# Altium schematic symbol library SEMATIK_LIB.SchLib: 632 symbols (part 11 of 21)
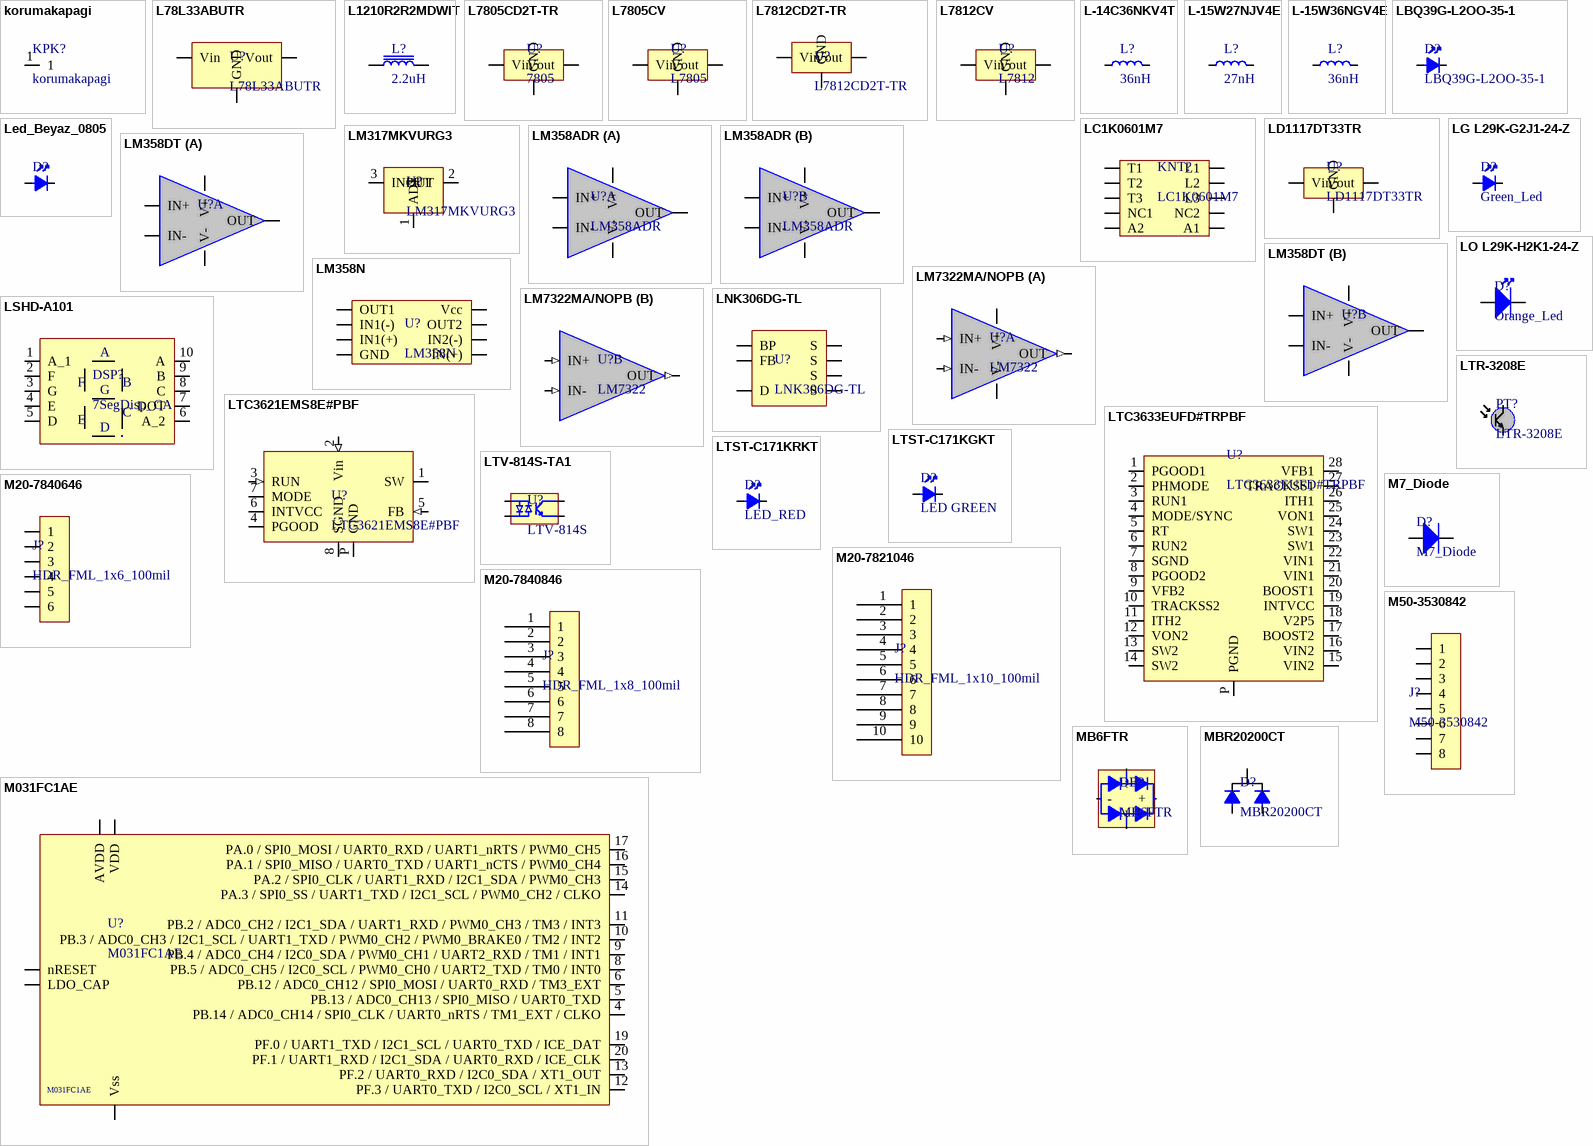
[diagram p26: symbols korumakapagi to MBR20200CT]

## L-15W27NJV4E
designator L?, comment 27nH
FIXED IND nH 27 600MA 120MOHM SMD; Manufacturer: Johanson; Manufacturer Part Number: L-15W27NJV4E; Core Material: Ceramic; Tolerance: 5%; Shielding: Unshielded; DC Resistance (DCR): 120mR; Self Resonant Frequency: 2.6GHz; Test Frequency: 100MHz; Q Factor: 60; Supplier 1: Digi-Key; RoHS: Yes; Category: Fixed Inductors; Pricing 1: 4000=0,08127 (USD); Mount: Surface Mount; Case/Package: 0805; Case Code (Metric): 2012; Case Code (Imperial): 0805; Min Operating Temperature: -40°C; Max Operating Temperature: 125°C; Package Quantity: 2000; Current Rating: 600mA; Packaging: Tape and Reel; Resistor Type: Wirewound; Inductance: 27nH; Max DC Current: 600mA; Termination: SMD/SMT; DC Current: 600mA; Series: -; Length: 0.079inch; Width: 0.049inch; Height: 1.2mm; Height - Seated (Max): 0.055inch; Depth: 1.45mm; Military Standard: Not; RoHS Compliant: Yes; ComponentLink1URL: http://www.mouser.com/ds/2/611/jti-cat-ww-ind-541413.pdf?src-supplier=Mouser; ComponentLink1Description: http://www.mouser.com/ds/2/611/jti-cat-ww-ind-541413.pdf?src-supplier=Mouser; ComponentLink2URL: http://components.arrow.com/part/dataview/0323_01333189?src-supplier=Arrow+Europe; ComponentLink2Description: http://components.arrow.com/part/dataview/0323_01333189?src-supplier=Arrow+Europe; ComponentLink3URL: http://components.arrow.com/part/dataview/43911987S9161101N2069?src-supplier=Arrow+Electronics; ComponentLink3Description: http://components.arrow.com/part/dataview/43911987S9161101N2069?src-supplier=Arrow+Electronics; ComponentLink4URL: https://www.johansontechnology.com/downloads/jti-cat-ww-ind.pdf?src-supplier=Digi-Key; ComponentLink4Description: https://www.johansontechnology.com/downloads/jti-cat-ww-ind.pdf?src-supplier=Digi-Key; Supplier Part Number 1: L-15W27NJV4E-ND
footprint FERRITEBEAD_0805
pins: 1, 2

## L-15W36NGV4E
designator L?, comment 36nH
FIXED IND nH 36 500MA SMD; Manufacturer: Johanson; Manufacturer Part Number: L-15W36NGV4E; Core Material: Ceramic; Tolerance: 2%; Shielding: Unshielded; Test Frequency: 100MHz; Supplier 1: Digi-Key; RoHS: Yes; Category: Fixed Inductors; Mount: Surface Mount; Case/Package: 0805; Min Operating Temperature: -40°C; Max Operating Temperature: 125°C; Package Quantity: 2000; Current Rating: 500mA; Packaging: Tape and Reel; Resistor Type: Wirewound; Inductance: 36nH; Length: 0.079inch; Width: 0.049inch; Height - Seated (Max): 0.055inch; ComponentLink1URL: https://www.johansontechnology.com/downloads/jti-cat-ww-ind.pdf?src-supplier=Digi-Key; ComponentLink1Description: https://www.johansontechnology.com/downloads/jti-cat-ww-ind.pdf?src-supplier=Digi-Key; Supplier Part Number 1: L-15W36NGV4E-ND
footprint FERRITEBEAD_0805
pins: 1, 2

## LBQ39G-L2OO-35-1
designator D?
LED BLUE DIFFUSED 0603 SMD; Manufacturer 1: Osram Opto; Description 1: CHIPLED 0603 BLUE; Lens Style: Diffused,Colorless,Rectangular; Dominant Wavelength: 470nm; Luminous Flux: 0.089lm; Number of LEDs: 1; Supplier 1: Digi-Key; Manufacturer Part Number 1: LBQ39G-L2OO-35-1; Stock 1: 98542; Pricing 1: 1=0.43, 10=0.304, 100=0.1776, 500=0.12178, 1000=0.10148 (USD); Mount: Surface Mount; Case/Package: SMD/SMT; Number of Pins: 2; Color: Blue; Packaging: Tape and Reel; Radiation Hardening: No; Supplier Part Number 1: 475-2816-1-ND
footprint LED_0603_BLUE
pins: 1 Katot, 2 Anot

## LC1K0601M7
designator KNT?
SCHNEIDER ELECTRIC CONTACTOR; Number of Poles: 3; Contact Current Rating: 6A; Throw Configuration: 3P; Coil Voltage (AC): 230V; Supplier 1: RSComponents; Manufacturer 1: Schneider Electric; Manufacturer Part Number 1: LC1K0601M7; Stock 1: 0; Min Operating Temperature: -25°C; Max Operating Temperature: 50°C; Termination: Screw; Length: 58mm; Width: 45mm; Depth: 57mm; REACH SVHC: No SVHC; ComponentLink1URL: http://www.farnell.com/datasheets/1675126.pdf?src-supplier=Element14; ComponentLink1Description: http://www.farnell.com/datasheets/1675126.pdf?src-supplier=Element14; Supplier Part Number 1: 744-7617
footprint LC1K0601_1
pins: 1 T1, 2 T2, 3 T3, 4 NC1, 5 A2, 6 A1, 7 NC2, 8 L3, 9 L2, 10 L1

## LD1117DT33TR
designator U?
IC REG LINEAR 3.3V 800MA DPAK; Manufacturer: STMicroelectronics; Max Power Dissipation: 12W; Dropout Voltage: 1.1V; Max Input Voltage: 15V; Nominal Supply Current: 5mA; Max Output Current: 1.3A; Number of Outputs: 1; Quiescent Current: 10mA; Polarity: Positive; Accuracy: 1%; Output Type: Fixed; Supplier 1: Digi-Key; Manufacturer Part Number: LD1117DT33TR; Stock 1: 15000; Pricing 1: 2500 = 0,15312, 5000 = 0,14256, 12500 = 0,13517, 25000 = 0,13200, 62500 = 0,12989, 125000 = 0,12672 (USD); RoHS: Yes; Mount: Surface Mount; Case/Package: TO-252; Number of Pins: 3; Weight: 0.01lb; Contact Plating: Tin,Matte; Min Operating Temperature: 0°C; Max Operating Temperature: 125°C; Packaging: Tape and Reel; Package Quantity: 1; Power Dissipation: 12W; Output Current: 800mA; Output Voltage: 3.3V; Nominal Output Voltage: 3.3V; Number of Regulators: 1; Input Bias Current: 5mA; Output Voltage Accuracy: 1%; Power Rating: 12W; Tolerance: 1%; Length: 6.6mm; Height: 2.4mm; Width: 6.2mm; Radiation Hardening: No; REACH SVHC: No SVHC; Lead Free: Lead Free; ComponentLink1URL: https://datasheet.ciiva.com/14149/ld1117-eng-tds-14149938.pdf?src-supplier=Distrelec; ComponentLink1Description: https://datasheet.ciiva.com/14149/ld1117-eng-tds-14149938.pdf?src-supplier=Distrelec; ComponentLink2URL: https://datasheet.ciiva.com/39121/1991846-39121638.pdf?src-supplier=Jameco; ComponentLink2Description: https://datasheet.ciiva.com/39121/1991846-39121638.pdf?src-supplier=Jameco; ComponentLink3URL: https://datasheet.ciiva.com/2042/cd00000544-2042056.pdf?src-supplier=Digi-Key; ComponentLink3Description: https://datasheet.ciiva.com/2042/cd00000544-2042056.pdf?src-supplier=Digi-Key; ComponentLink4URL: https://datasheet.ciiva.com/2042/cd00000544-2042057.pdf?src-supplier=Digi-Key; ComponentLink4Description: https://datasheet.ciiva.com/2042/cd00000544-2042057.pdf?src-supplier=Digi-Key; ComponentLink5URL: https://datasheet.ciiva.com/7992/1776449-7992617.pdf?src-supplier=Element14; ComponentLink5Description: https://datasheet.ciiva.com/7992/1776449-7992617.pdf?src-supplier=Element14; ComponentLink6URL: https://datasheet.ciiva.com/2042/cd00000544-2042058.pdf?src-supplier=Digi-Key; ComponentLink6Description: https://datasheet.ciiva.com/2042/cd00000544-2042058.pdf?src-supplier=Digi-Key; ComponentLink7URL: https://datasheet.ciiva.com/16199/cd00000544-16199549.pdf?src-supplier=Future+Electronics; ComponentLink7Description: https://datasheet.ciiva.com/16199/cd00000544-16199549.pdf?src-supplier=Future+Electronics; ComponentLink8URL: https://datasheet.ciiva.com/7993/1776449-7993326.pdf?src-supplier=Element14; ComponentLink8Description: https://datasheet.ciiva.com/7993/1776449-7993326.pdf?src-supplier=Element14; Supplier Part Number 1: 497-1236-2-ND
footprint DPAK
pins: 1 GND, 2 Vout, 3 Vin

## Led_Beyaz_0805
designator D?, comment QBLP631-IW  (value not drawn)
LED WHITE 0805 SMD; Manufacturer: QT Brightek (QTB); Lens Color: Yellow; Millicandela Rating: 270mcd; Lens Style/Size: Rectangle with Flat Top, 1.30mm x 1.25mm; Voltage - Forward (Vf) (Typ): 3.1V; Current - Test: 20mA; Supplier 1: Digi-Key; Manufacturer Part Number: QBLP631-IW; RoHS: RoHS Compliant; Category: Optoelectronics; Stock 1: 120000; Pricing 1: 3000=0.099, 6000=0.0935, 15000=0.08525, 30000=0.07975, 75000=0.07315 (USD); Packaging: Tape & Reel (TR); Part Status: Active; Color: White; Lens Transparency: -; Viewing Angle: -; Mounting Type: Surface Mount; Wavelength - Dominant: -; Wavelength - Peak: -; Features: -; Package / Case: 0805 (2012 Metric); Supplier Device Package: 0805; Size / Dimension: 2.00mm L x 1.25mm W; Height (Max): 0.80mm; ComponentLink1URL: http://www.qt-brightek.com/datasheet/QBLP631_series.pdf; ComponentLink1Description: http://www.qt-brightek.com/datasheet/QBLP631_series.pdf; Supplier Part Number 1: 1516-1085-2-ND
footprint LED_0805
pins: 1 Katot, 2 Anot

## LG L29K-G2J1-24-Z
designator D?, comment Green_Led
LED GREEN DIFFUSED 0603 SMD; Manufacturer: OSRAM Opto Semiconductors Inc.; Manufacturer Part Number: LG L29K-G2J1-24-Z; Lens Color: White; Millicandela Rating: 3.92mcd; Lens Style/Size: Rectangle with Flat Top, 1.30mm x 0.80mm; Voltage - Forward (Vf) (Typ): 1.7V; Current - Test: 2mA; Viewing Angle: 160°; Wavelength - Dominant: 570nm; Wavelength - Peak: 572nm; Supplier 1: Digi-Key; RoHS: RoHS Compliant; Category: Optoelectronics; Stock 1: 0; Pricing 1: 1=0.47, 10=0.339, 25=0.2768, 100=0.2215, 250=0.18688, 500=0.15918, 1000=0.12458, 2500=0.1142 (USD); Packaging: Cut Tape (CT); Part Status: Active; Color: Green; Lens Transparency: Diffused; Mounting Type: Surface Mount; Features: -; Package / Case: 0603 (1608 Metric); Supplier Device Package: 0603; Size / Dimension: 1.70mm L x 0.80mm W; Height (Max): 0.65mm; ComponentLink1URL: http://www.osram-os.com/Graphics/XPic0/00167682_0.pdf; ComponentLink1Description: http://www.osram-os.com/Graphics/XPic0/00167682_0.pdf; Supplier Part Number 1: 475-2709-1-ND
footprint LED_0603_Green
pins: 1 Katot, 2 Anot

## LM317MKVURG3
designator U?
IC REG 1.25V to 37V 0.5A 3-Pin(2+Tab) PFM T/R; Manufacturer 1: Texas Instruments; Manufacturer: Yageo; Manufacturer Part Number: RL1206FR-070R2L; Power Supply Rejection Ratio (PSRR): 80dB; Number of Outputs: 1; Min Input Voltage: 4.2V; Max Input Voltage: 40V; Max Output Current: 500mA; Quiescent Current: 3.5mA; Dropout Voltage: 2V; Polarity: Positive; Reference Voltage: 1.3V; Output Type: Adjustable; Resistance: 200mR; Power Rating: 250mW; Tolerance: 1%; Temperature Coefficient: 600ppm/°C; Supplier 1: Farnell; Manufacturer Part Number 1: LM317MKVURG3; Stock 1: 0; Pricing 1: 150=0,47900, 250=0,45100, 500=0,42300, 1000=0,33400, 2500=0,29700, 5000=0,29000 (EUR); RoHS: Yes; Mount: Surface Mount; Case/Package: TO-252-3; Number of Pins: 3; Weight: 0.011598oz; Contact Plating: Tin; Min Operating Temperature: -40°C; Max Operating Temperature: 125°C; Output Voltage: 37V; Packaging: Tape and Reel; Output Current: 500mA; Package Quantity: 2500; Number of Regulators: 1; Min Current Limit: 500mA; Min Output Voltage: 1.25V; Max Output Voltage: 37V; Length: 6.7mm; Height: 2.39mm; Width: 6.22mm; Radiation Hardening: No; Lead Free: Lead Free; REACH SVHC: No SVHC; ComponentLink1URL: https://datasheet.ciiva.com/22629/1716624-22629235.pdf?src-supplier=Element14; ComponentLink1Description: https://datasheet.ciiva.com/22629/1716624-22629235.pdf?src-supplier=Element14; ComponentLink2URL: https://datasheet.ciiva.com/2043/lm317m-2043127.pdf?src-supplier=Digi-Key; ComponentLink2Description: https://datasheet.ciiva.com/2043/lm317m-2043127.pdf?src-supplier=Digi-Key; ComponentLink3URL: https://datasheet.ciiva.com/2043/lm317m-2043128.pdf?src-supplier=Digi-Key; ComponentLink3Description: https://datasheet.ciiva.com/2043/lm317m-2043128.pdf?src-supplier=Digi-Key; ComponentLink4URL: https://datasheet.ciiva.com/26177/lm317mq-26177720.pdf?src-supplier=Avnet+Europe; ComponentLink4Description: https://datasheet.ciiva.com/26177/lm317mq-26177720.pdf?src-supplier=Avnet+Europe; ComponentLink5URL: https://datasheet.ciiva.com/2043/lm317m-2043129.pdf?src-supplier=Digi-Key; ComponentLink5Description: https://datasheet.ciiva.com/2043/lm317m-2043129.pdf?src-supplier=Digi-Key; ComponentLink6URL: https://datasheet.ciiva.com/46381/1814942-46381865.pdf?src-supplier=Element14; ComponentLink6Description: https://datasheet.ciiva.com/46381/1814942-46381865.pdf?src-supplier=Element14; Supplier Part Number 1: 2323453RL; Supplier 2: Digi-Key; Stock 2: 92678; Pricing 2: 1 = 0,40000, 10 = 0,28700, 100 = 0,11490, 1000 = 0,05661, 2500 = 0,05245 (USD); Case Code (Imperial): 1206; Case Code (Metric): 3216; Termination: SMD/SMT; Composition: Thick Film; Number of Terminations: 2; Max Power Dissipation: 250mW; Features: Moisture Resistant; ComponentLink7URL: https://datasheet.ciiva.com/8886/pyu-rl-521-rohs-l-5-8886872.pdf?src-supplier=Avnet; ComponentLink7Description: https://datasheet.ciiva.com/8886/pyu-rl-521-rohs-l-5-8886872.pdf?src-supplier=Avnet; ComponentLink8URL: https://datasheet.ciiva.com/28393/pyu-rl-521-rohs-l-5-28393432.pdf?src-supplier=Avnet+Europe; ComponentLink8Description: https://datasheet.ciiva.com/28393/pyu-rl-521-rohs-l-5-28393432.pdf?src-supplier=Avnet+Europe
footprint DPAK
pins: 1 ADJ, 2 OUT, 3 INPUT

## LM358ADR
designator U?
IC OPAMP GP SOIC8; Manufacturer 1: Rochester Electronics; Supplier 1: Digi-Key; Manufacturer Part Number 1: LM358ADR; Stock 1: 174142; Pricing 1: 1=0.36, 10=0.295, 100=0.2011, 500=0.1508, 1000=0.11309 (USD); Packaging: Bulk; Supplier Part Number 1: 296-14601-6-ND
footprint SOP8
part A pins: 1 OUT, 2 IN-, 3 IN+, 4 V-, 8 V+
part B pins: 4 V-, 5 IN+, 6 IN-, 7 OUT, 8 V+

## LM358DT
designator U?  (value not drawn)
IC OPAMP Dual GP 15V/30V SO8 N T/R; Manufacturer: STMicroelectronics; Number of Circuits: 2; Gain Bandwidth Product: 1.1MHz; Slew Rate: 0.6V/µs; Nominal Supply Current: 1.2mA; Input Bias Current: 150nA; Input Offset Voltage (Vos): 7mV; Operating Supply Current: 700uA; Output Current per Channel: 60mA; Common Mode Rejection Ratio: 70dB; Max Supply Voltage: 30V; Min Supply Voltage: 3V; Min Dual Supply Voltage: 1.5V; Max Dual Supply Voltage: 15V; Max Input Voltage: 28.5V; Min Input Voltage: 0uV; Voltage Gain: 100dB; Dual Supply Voltage: 9V; Output Current: 40mA; Supplier 1: Digi-Key; Manufacturer Part Number: LM358DT; RoHS: Yes; Category: Amplifiers - Op Amps, Buffer, Instrumentation; Stock 1: 48695; Pricing 1: 1=0,46000, 10=0,34900, 25=0,31480, 100=0,17160, 250=0,16588, 500=0,14872, 1000=0,11440 (USD); Mount: Surface Mount; Case/Package: SOIC; Number of Pins: 8; Weight: 0.01lb; Contact Plating: Tin,Matte; Min Operating Temperature: 0°C; Max Operating Temperature: 70°C; Packaging: Tape and Reel; Bandwidth: 1.1MHz; Number of Channels: 2; Number of Elements: 2; Number of Amplifiers: 2; Unity Gain Bandwidth Product: 1.1MHz; Package Quantity: 2500; Max Output Current: 60mA; Operating Supply Voltage: 15V; Length: 4.9mm; Height: 1.25mm; Width: 3.9mm; Radiation Hardening: No; Lead Free: Lead Free; REACH SVHC: No SVHC; ComponentLink1URL: https://datasheet.ciiva.com/26846/lm358dt-26846528.pdf?src-supplier=IIIC; ComponentLink1Description: https://datasheet.ciiva.com/26846/lm358dt-26846528.pdf?src-supplier=IIIC; ComponentLink2URL: https://datasheet.ciiva.com/29306/155599-da-01-en-op-verst-lm358dt-stm-29306826.pdf?src-supplier=Conrad; ComponentLink2Description: https://datasheet.ciiva.com/29306/155599-da-01-en-op-verst-lm358dt-stm-29306826.pdf?src-supplier=Conrad; ComponentLink3URL: https://datasheet.ciiva.com/1795/cd00000464-1795490.pdf?src-supplier=Digi-Key; ComponentLink3Description: https://datasheet.ciiva.com/1795/cd00000464-1795490.pdf?src-supplier=Digi-Key; ComponentLink4URL: https://datasheet.ciiva.com/1795/cd00000464-1795492.pdf?src-supplier=Digi-Key; ComponentLink4Description: https://datasheet.ciiva.com/1795/cd00000464-1795492.pdf?src-supplier=Digi-Key; ComponentLink5URL: https://datasheet.ciiva.com/1795/cd00000464-1795491.pdf?src-supplier=Digi-Key; ComponentLink5Description: https://datasheet.ciiva.com/1795/cd00000464-1795491.pdf?src-supplier=Digi-Key; ComponentLink6URL: https://datasheet.ciiva.com/16371/cd00000464-16371207.pdf?src-supplier=Future+Electronics; ComponentLink6Description: https://datasheet.ciiva.com/16371/cd00000464-16371207.pdf?src-supplier=Future+Electronics; ComponentLink7URL: https://datasheet.ciiva.com/14544/70013561-14544747.pdf?src-supplier=Allied+Electronics; ComponentLink7Description: https://datasheet.ciiva.com/14544/70013561-14544747.pdf?src-supplier=Allied+Electronics; Supplier Part Number 1: 497-1591-1-ND
footprint SOP8
part A pins: 1 OUT, 2 IN-, 3 IN+, 4 V-, 8 V+
part B pins: 4 V-, 5 IN+, 6 IN-, 7 OUT, 8 V+

## LM358N
designator U?
IC OPAMP GP 8DIP; Manufacturer: ON Semiconductor; Amplifier Type: General Purpose; Current - Supply: 800µA; Voltage - Supply, Single/Dual (±): 3 V ~ 32 V, ±1.5 V ~ 16 V; Supplier 1: Digi-Key; Manufacturer Part Number: LM358N; RoHS: RoHS Compliant; Category: Integrated Circuits (ICs); Stock 1: 38121; Pricing 1: 1=0.51, 10=0.434, 100=0.3237, 500=0.25432, 1000=0.19652 (USD); Packaging: Tube; Part Status: Active; Output Type: -; Slew Rate: -; Operating Temperature: 0°C ~ 70°C; Mounting Type: Through Hole; Package / Case: 8-DIP (0.300", 7.62mm); Supplier Device Package: 8-DIP; Base Part Number: LM358; ComponentLink1URL: https://www.fairchildsemi.com/datasheets/LM/LM258A.pdf; ComponentLink1Description: https://www.fairchildsemi.com/datasheets/LM/LM258A.pdf; Supplier Part Number 1: LM358NFS-ND
footprint DIP8
pins: 1 OUT1, 2 IN1(-), 3 IN1(+), 4 GND, 5 IN(+), 6 IN2(-), 7 OUT2, 8 Vcc

## LM7322MA/NOPB
designator U?, comment LM7322
IC OPAMP GP 1 CIRCUIT SOT23-5 General Purpose Amplifier 1 Circuit Rail-to-Rail SOT-23-5; Manufacturer: TI National Semiconductor; Manufacturer Part Number: LM7322MA/NOPB; Manufacturer Lifecycle Status: ACTIVE; Number of Channels: 2; Output Current: 100mA; Bandwidth: 20MHz; Min Dual Supply Voltage: 1.25V; Max Supply Voltage: 32V; Voltage Gain: 80dB; Unity Gain Bandwidth Product: 16MHz; Slew Rate: 18V/µs; Common Mode Rejection Ratio: 65dB; Min Supply Voltage: 2.5V; Max Dual Supply Voltage: 16V; Nominal Supply Current: 2mA; Input Bias Current: 1.1uA; Input Offset Voltage (Vos): 700uV; Operating Supply Current: 2.5mA; Power Supply Rejection Ratio (PSRR): 78dB; Max Junction Temperature (Tj): 150°C; Response Time: 1.4µs; Supplier 1: Digi-Key; RoHS: Yes; Category: Amplifiers - Op Amps, Buffer, Instrumentation; Pricing 1: 1=3,29000, 10=2,95700, 25=2,79520, 100=2,42250, 250=2,29828, 500=2,06226, 1000=1,75800 (USD); Mount: Surface Mount; Case/Package: SOIC; Number of Pins: 8; Contact Plating: Tin,Matte; Min Operating Temperature: -40°C; Max Operating Temperature: 125°C; Packaging: Rail/Tube; Gain Bandwidth Product: 20MHz; Operating Supply Voltage: 16V; Package Quantity: 95; Number of Circuits: 2; Output Current per Channel: 100mA; Number of Elements: 2; Number of Amplifiers: 2; Series: PowerWise®; Amplifier Type: GENERAL PURPOSE; Technology: CMOS; Supply Current: 2.5mA; Length: 4.9mm; Width: 3.9mm; Height: 1.45mm; Radiation Hardening: No; Lead Free: Lead Free; Reach SVHC Compliant: Yes; RoHS Compliant: Yes; ComponentLink1URL: https://datasheet.ciiva.com/25629/0900766b810fa64f-25629317.pdf?src-supplier=RSComponents; ComponentLink1Description: https://datasheet.ciiva.com/25629/0900766b810fa64f-25629317.pdf?src-supplier=RSComponents; ComponentLink2URL: https://datasheet.ciiva.com/8008/1882913-8008907.pdf?src-supplier=Element14; ComponentLink2Description: https://datasheet.ciiva.com/8008/1882913-8008907.pdf?src-supplier=Element14; ComponentLink3URL: https://datasheet.ciiva.com/6630/lm7321-6630521.pdf?src-supplier=Digi-Key; ComponentLink3Description: https://datasheet.ciiva.com/6630/lm7321-6630521.pdf?src-supplier=Digi-Key; Supplier Part Number 1: LM7322MA/NOPB-ND; Supplier: Mouser; Supplier Part Number: 595-OPA197IDBVT; Stock: 4299; Pricing: 1=2,02, 10=1,48, 50=1,35, 100=1,2, 1000=1,06, 10000=1 (USD); Ambient Temperature Range High: 125°C; Lifecycle Status: Production; Mounting Technology: Surface Mount; Pins: 5; REACH SVHC: No; Schedule B: 8542330000|8542330000|8542330000|8542330000|8542330000; Thickness: 1.2mm; ComponentLink4URL: https://sigma.octopart.com:443/177332311/technical_drawing/Texas-Instruments-OPA197IDBVT.pdf?src-supplier=Texas+Instruments; ComponentLink4Description: https://sigma.octopart.com:443/177332311/technical_drawing/Texas-Instruments-OPA197IDBVT.pdf?src-supplier=Texas+Instruments; ComponentLink5URL: https://octopart.com:443/opatz8j6/c1?t=aJRYF4XN0lTem9jdAf04Ubk0t9rfCS2njLHnbpiSVx9YB1PFuORUuYLWyFXJd9Aj3TrYrynCmuh2XimmpiRQHXbdTcjs9k00FjoAbZ82gLOqCaZ0VcztbEhg9-sradtXeAlDi32kidYucKS1jpuWXeRxJmuNv5r1IGat_14eul1JmdfbZ7jkCGkPOlwhaLS0oG-0W5e5Nj2OZuzXLRJVFET6BSm2pCVZ7I80OCTqG3oxz0Z4Si96XTw0NEY4rLRz_Q8Th5st_jxz6ND_bMTfvBk8KskDp3pQGGo-0_nfgEjhbvxelWHqAUzWDsxfqUwTQfjtmijzkawj5IY9JwpGW5ekkxZsbTxcYyx5VlmDGKQvr9OkczopUSOLnrbJNimnO8D7bQ&src-supplier=Texas+Instruments; ComponentLink5Description: https://octopart.com:443/opatz8j6/c1?t=aJRYF4XN0lTem9jdAf04Ubk0t9rfCS2njLHnbpiSVx9YB1PFuORUuYLWyFXJd9Aj3TrYrynCmuh2XimmpiRQHXbdTcjs9k00FjoAbZ82gLOqCaZ0VcztbEhg9-sradtXeAlDi32kidYucKS1jpuWXeRxJmuNv5r1IGat_14eul1JmdfbZ7jkCGkPOlwhaLS0oG-0W5e5Nj2OZuzXLRJVFET6BSm2pCVZ7I80OCTqG3oxz0Z4Si96XTw0NEY4rLRz_Q8Th5st_jxz6ND_bMTfvBk8KskDp3pQGGo-0_nfgEjhbvxelWHqAUzWDsxfqUwTQfjtmijzkawj5IY9JwpGW5ekkxZsbTxcYyx5VlmDGKQvr9OkczopUSOLnrbJNimnO8D7bQ&src-supplier=Texas+Instruments; ComponentLink6URL: https://sigma.octopart.com:443/175570406/technical_drawing/Texas-Instruments-OPA197IDBVT.pdf?src-supplier=Texas+Instruments; ComponentLink6Description: https://sigma.octopart.com:443/175570406/technical_drawing/Texas-Instruments-OPA197IDBVT.pdf?src-supplier=Texas+Instruments; ComponentLink7URL: https://sigma.octopart.com:443/169406034/technical_drawing/Texas-Instruments-OPA197IDBVT.pdf?src-supplier=Texas+Instruments; ComponentLink7Description: https://sigma.octopart.com:443/169406034/technical_drawing/Texas-Instruments-OPA197IDBVT.pdf?src-supplier=Texas+Instruments; ComponentLink8URL: https://sigma.octopart.com:443/155939316/technical_drawing/Texas-Instruments-OPA197IDBVT.pdf?src-supplier=Texas+Instruments; ComponentLink8Description: https://sigma.octopart.com:443/155939316/technical_drawing/Texas-Instruments-OPA197IDBVT.pdf?src-supplier=Texas+Instruments; ComponentLink9URL: https://sigma.octopart.com:443/102331370/technical_drawing/Texas-Instruments-OPA197IDBVT.pdf?src-supplier=Texas+Instruments; ComponentLink9Description: https://sigma.octopart.com:443/102331370/technical_drawing/Texas-Instruments-OPA197IDBVT.pdf?src-supplier=Texas+Instruments; ComponentLink10URL: https://datasheet.octopart.com:443/OPA197IDBVT-Texas-Instruments-datasheet-62062805.pdf?src-supplier=Texas+Instruments; ComponentLink10Description: https://datasheet.octopart.com:443/OPA197IDBVT-Texas-Instruments-datasheet-62062805.pdf?src-supplier=Texas+Instruments; ComponentLink11URL: https://sigma.octopart.com:443/49249325/technical_drawing/Texas-Instruments-OPA197IDBVT.pdf?src-supplier=Texas+Instruments; ComponentLink11Description: https://sigma.octopart.com:443/49249325/technical_drawing/Texas-Instruments-OPA197IDBVT.pdf?src-supplier=Texas+Instruments; ComponentLink12URL: https://datasheet.octopart.com:443/OPA197IDBVT-Texas-Instruments-datasheet-149155753.pdf?src-supplier=Upverter; ComponentLink12Description: https://datasheet.octopart.com:443/OPA197IDBVT-Texas-Instruments-datasheet-149155753.pdf?src-supplier=Upverter; ComponentLink13URL: https://datasheet.octopart.com:443/OPA197IDBVT-Texas-Instruments-datasheet-100480384.pdf?src-supplier=Newark; ComponentLink13Description: https://datasheet.octopart.com:443/OPA197IDBVT-Texas-Instruments-datasheet-100480384.pdf?src-supplier=Newark; ComponentLink14URL: https://datasheet.octopart.com:443/OPA197IDBVT-Texas-Instruments-datasheet-65713346.pdf?src-supplier=Newark; ComponentLink14Description: https://datasheet.octopart.com:443/OPA197IDBVT-Texas-Instruments-datasheet-65713346.pdf?src-supplier=Newark; ComponentLink15URL: https://datasheet.octopart.com:443/OPA197IDBVT-Texas-Instruments-datasheet-62333749.pdf?src-supplier=Farnell; ComponentLink15Description: https://datasheet.octopart.com:443/OPA197IDBVT-Texas-Instruments-datasheet-62333749.pdf?src-supplier=Farnell; ComponentLink16URL: https://datasheet.octopart.com:443/OPA197IDBVT-Texas-Instruments-datasheet-164361763.pdf?src-supplier=SHENGYU+ELECTRONICS; ComponentLink16Description: https://datasheet.octopart.com:443/OPA197IDBVT-Texas-Instruments-datasheet-164361763.pdf?src-supplier=SHENGYU+ELECTRONICS; ComponentLink17URL: https://datasheet.octopart.com:443/OPA197IDBVT-Texas-Instruments-datasheet-140571582.pdf?src-supplier=Arrow.cn; ComponentLink17Description: https://datasheet.octopart.com:443/OPA197IDBVT-Texas-Instruments-datasheet-140571582.pdf?src-supplier=Arrow.cn; ComponentLink18URL: http://sigma.octopart.com:80/conflict_mineral_statement/Texas-Instruments-company-63.pdf?src-supplier=Compliance+Statements; ComponentLink18Description: http://sigma.octopart.com:80/conflict_mineral_statement/Texas-Instruments-company-63.pdf?src-supplier=Compliance+Statements; ComponentLink19URL: http://sigma.octopart.com:80/reach_statement/Texas-Instruments-company-64.pdf?src-supplier=Compliance+Statements; ComponentLink19Description: http://sigma.octopart.com:80/reach_statement/Texas-Instruments-company-64.pdf?src-supplier=Compliance+Statements
footprint SOP8
part A pins: 1 OUT (out), 2 IN- (in), 3 IN+ (in), 4 V- (power), 8 V+ (power)
part B pins: 5 IN+ (in), 6 IN- (in), 7 OUT (out)

## LNK306DG-TL
designator U?
IC REG SMPS pOFFLINE SWIT OCP 8SOP; Manufacturer: Power Integrations; Output Voltage: 12V; Output Current: 225mA; Breakdown Voltage: 700V; Max Supply Voltage (AC): 265V; Min Supply Voltage (AC): 85V; Nominal Supply Current: 68uA; Max Power Dissipation: 12mW; Max Duty Cycle: 72%; Number of Outputs: 1; Supplier 1: Digi-Key; Manufacturer Part Number: LNK306DG-TL; Stock 1: 6575; Pricing 1: 1 = 1,68000, 10 = 1,51100, 25 = 1,42520, 100 = 1,14000, 250 = 0,99752, 500 = 0,96900, 1000 = 0,76950 (USD); RoHS: Yes; Mount: Surface Mount; Case/Package: SOIC; Number of Pins: 7; Min Operating Temperature: -40°C; Max Operating Temperature: 150°C; Package Quantity: 1; Packaging: Tape and Reel; Radiation Hardening: No; ComponentLink1URL: https://datasheet.ciiva.com/1929/lnk302-304-306-1929833.pdf?src-supplier=Digi-Key; ComponentLink1Description: https://datasheet.ciiva.com/1929/lnk302-304-306-1929833.pdf?src-supplier=Digi-Key; ComponentLink2URL: https://datasheet.ciiva.com/1929/lnk302-304-306-1929834.pdf?src-supplier=Digi-Key; ComponentLink2Description: https://datasheet.ciiva.com/1929/lnk302-304-306-1929834.pdf?src-supplier=Digi-Key; ComponentLink3URL: https://datasheet.ciiva.com/1929/lnk302-304-306-1929835.pdf?src-supplier=Digi-Key; ComponentLink3Description: https://datasheet.ciiva.com/1929/lnk302-304-306-1929835.pdf?src-supplier=Digi-Key; ComponentLink4URL: https://datasheet.ciiva.com/3229/lnk302-304-306-3229964.pdf?src-supplier=Avnet; ComponentLink4Description: https://datasheet.ciiva.com/3229/lnk302-304-306-3229964.pdf?src-supplier=Avnet; ComponentLink5URL: https://datasheet.ciiva.com/12238/lnk302-304-306-179954-12238844.pdf?src-supplier=Mouser; ComponentLink5Description: https://datasheet.ciiva.com/12238/lnk302-304-306-179954-12238844.pdf?src-supplier=Mouser; ComponentLink6URL: https://datasheet.ciiva.com/16470/lnk302-304-306-16470990.pdf?src-supplier=Avnet+Asia; ComponentLink6Description: https://datasheet.ciiva.com/16470/lnk302-304-306-16470990.pdf?src-supplier=Avnet+Asia; Supplier Part Number 1: 596-1239-1-ND
footprint SO8C-NOPIN3
pins: 1 BP, 2 FB, 4 D, 5 S, 6 S, 7 S, 8 S

## LO L29K-H2K1-24-Z
designator D?, comment Orange_Led
LED ORANGE DIFFUSED 0603 SMD; Manufacturer: OSRAM Opto Semiconductors Inc.; Manufacturer Part Number: LO L29K-H2K1-24-Z; Lens Color: White; Millicandela Rating: 6.3mcd; Lens Style/Size: Rectangle with Flat Top, 1.30mm x 0.80mm; Voltage - Forward (Vf) (Typ): 1.8V; Current - Test: 2mA; Viewing Angle: 160°; Wavelength - Dominant: 606nm; Wavelength - Peak: 610nm; Supplier 1: Digi-Key; RoHS: RoHS Compliant; Category: Optoelectronics; Stock 1: 2729; Pricing 1: 1=0.51, 10=0.359, 25=0.3116, 100=0.2396, 250=0.19468, 500=0.14376, 1000=0.1198, 2500=0.10782 (USD); Packaging: Cut Tape (CT); Part Status: Active; Color: Orange; Lens Transparency: Diffused; Mounting Type: Surface Mount; Features: -; Package / Case: 0603 (1608 Metric); Supplier Device Package: 0603; Size / Dimension: 1.70mm L x 0.80mm W; Height (Max): 0.65mm; ComponentLink1URL: http://www.osram-os.com/Graphics/XPic0/00077105_0.pdf; ComponentLink1Description: http://www.osram-os.com/Graphics/XPic0/00077105_0.pdf; Supplier Part Number 1: 475-2740-1-ND; Supplier 2: Digi-Key; Stock 2: 120000; Pricing 2: 3000=0.099, 6000=0.0935, 15000=0.08525, 30000=0.07975, 75000=0.07315 (USD); ComponentLink2URL: http://www.qt-brightek.com/datasheet/QBLP631_series.pdf; ComponentLink2Description: http://www.qt-brightek.com/datasheet/QBLP631_series.pdf; Supplier Part Number 2: 1516-1085-2-ND
footprint LED_0603
pins: 1 Katot, 2 Anot

## LSHD-A101
designator DSP?, comment 7SegDisp_CA
LED 7-SEG .3" RED 650NM CA; Manufacturer: Vishay Lite-On; Manufacturer Part Number: LSHD-A101; Viewing Area (height): 7.62mm; Element Configuration: Common Anode; Forward Current: 25mA; Forward Voltage: 2.1V; Wavelength: 639nm; Power Consumption: 70mW; Test Current: 10mA; Luminous Intensity: 9mcd; Supplier 1: Digi-Key; Stock 1: 9101; Pricing 1: 1 = 1,30000, 10 = 1,05600, 100 = 0,65000, 500 = 0,55250, 1000 = 0,45500, 2500 = 0,43225, 5000 = 0,42250, 10000 = 0,41275, 25000 = 0,40625 (USD); RoHS: Yes; Case/Package: DIP; Number of Pins: 10; Color: Red; Min Operating Temperature: -35°C; Max Operating Temperature: 105°C; Packaging: Rail/Tube; Package Quantity: 39; Illumination Color: Red; Operating Supply Voltage: 2.1V; Max Power Dissipation: 70mW; Dominant Wavelength: 639nm; Length: 0.5inch; Height: 0.24inch; Width: 0.3inch; ComponentLink1URL: https://datasheet.ciiva.com/2104/lshd-a101-2104188.pdf?src-supplier=Digi-Key; ComponentLink1Description: https://datasheet.ciiva.com/2104/lshd-a101-2104188.pdf?src-supplier=Digi-Key; Supplier Part Number 1: 160-1572-5-ND
footprint 7_SEGMENT_300Mil
pins: 1 A_1, 2 F, 3 G, 4 E, 5 D, 6 A_2, 7 DOT, 8 C, 9 B, 10 A

## LTC3621EMS8E#PBF
designator U?
IC REG BUCK ADJUSTABLE 1A 8MSOP; Manufacturer: Analog Devices / Linear Technology; Output Voltage: 17V; Efficiency: 95%; Min Input Voltage: 2.7V; Number of Outputs: 1; Min Output Voltage: 600mV; Switching Frequency: 1MHz; Synchronous Rectifier: Yes; Output Configuration: Positive; Supplier 1: Digi-Key; Manufacturer Part Number: LTC3621EMS8E#PBF; Stock 1: 916; Pricing 1: 1 = 6,35000, 25 = 3,64000, 100 = 3,50900 (USD); RoHS: Yes; Case/Package: SOP; Number of Pins: 8; Min Operating Temperature: -40°C; Max Operating Temperature: 125°C; Output Current: 1A; Package Quantity: 50; Packaging: Rail/Tube; Max Output Voltage: 17V; Output Type: Adjustable; ComponentLink1URL: http://components.arrow.com/part/dataview/1762_06998244?src-supplier=Arrow+Europe; ComponentLink1Description: http://components.arrow.com/part/dataview/1762_06998244?src-supplier=Arrow+Europe; ComponentLink2URL: http://components.arrow.com/part/dataview/58381008S637520N7433?src-supplier=Arrow; ComponentLink2Description: http://components.arrow.com/part/dataview/58381008S637520N7433?src-supplier=Arrow; ComponentLink3URL: http://www.linear.com/docs/43836?src-supplier=Digi-Key; ComponentLink3Description: http://www.linear.com/docs/43836?src-supplier=Digi-Key; Supplier Part Number 1: LTC3621EMS8E#PBF-ND
footprint MSOP8
pins: 1 SW, 2 Vin (in), 3 RUN (in), 4 PGOOD (power), 5 FB (in), 6 INTVCC, 7 MODE, 8 SGND, P GND

## LTC3633EUFD#TRPBF
designator U?
IC REG BUCK ADJ 3A DL SYNC 28QFN; Manufacturer: Analog Devices / Linear Technology; Output Voltage: 14.7V; Efficiency: 95%; Min Input Voltage: 3.6V; Number of Outputs: 2; Switching Frequency: 4MHz; Synchronous Rectifier: No; Output Type: Adjustable; Supplier 1: Digi-Key; Manufacturer Part Number: LTC3633EUFD#TRPBF; Stock 1: 0; Pricing 1: 1 = 10,73000, 25 = 5,93040 (USD); RoHS: Yes; Case/Package: QFN; Number of Pins: 28; Min Operating Temperature: -40°C; Max Operating Temperature: 125°C; Output Current: 3A; Package Quantity: 2500; Packaging: Tape and Reel; Lead Free: Lead Free; ComponentLink1URL: https://datasheet.ciiva.com/26902/ltc3633eufd-trpbf-26902179.pdf?src-supplier=IIIC; ComponentLink1Description: https://datasheet.ciiva.com/26902/ltc3633eufd-trpbf-26902179.pdf?src-supplier=IIIC; ComponentLink2URL: https://datasheet.ciiva.com/2033/29012-2033228.pdf?src-supplier=Digi-Key; ComponentLink2Description: https://datasheet.ciiva.com/2033/29012-2033228.pdf?src-supplier=Digi-Key; Supplier Part Number 1: LTC3633EUFD#TRPBFCT-ND
footprint QFN28-UFD(4X5)
pins: 1 PGOOD1, 2 PHMODE, 3 RUN1, 4 MODE/SYNC, 5 RT, 6 RUN2, 7 SGND, 8 PGOOD2, 9 VFB2, 10 TRACKSS2, 11 ITH2, 12 VON2, 13 SW2, 14 SW2, 15 VIN2, 16 VIN2, 17 BOOST2, 18 V2P5, 19 INTVCC, 20 BOOST1, 21 VIN1, 22 VIN1, 23 SW1, 24 SW1, 25 VON1, 26 ITH1, 27 TRACKSS1, 28 VFB1, P PGND

## LTR-3208E
designator PT?
PHOTOTRANSISTOR 940NM NPN 5MM IR DARK; Manufacturer: Vishay Lite-On; Max Collector Current: 3.12mA; Collector Emitter Voltage (VCEO): 30V; Fall Time: 15000ns; Number of Elements: 1; Power Dissipation: 100mW; Lens Style: Domed; Rise Time: 10000ns; Viewing Angle: 20°; Dark Current: 100nA; Current Rating: 3A; Gender: Male; Voltage Rating: 1.5kV; Number of Positions: 3; Insulation Resistance: 5GR; Connector Type: Male Pin; Pitch: 2.54mm; Contact Post Length: 3.81mm; Supplier 1: Digi-Key; Manufacturer Part Number: LTR-3208E; Stock 1: 44140; Pricing 1: 1 = 0,49000, 10 = 0,30000, 100 = 0,17250, 1000 = 0,13500, 2000 = 0,12375, 5000 = 0,11250, 10000 = 0,10500, 25000 = 0,10125 (USD); RoHS: Yes; Mount: Through Hole; Case/Package: Radial; Number of Pins: 2; Min Operating Temperature: -40°C; Max Operating Temperature: 85°C; Packaging: Bulk; Package Quantity: 1000; Collector Emitter Breakdown Voltage: 30V; Polarity: NPN; Output Power: 100mW; Orientation: Top View; Wavelength: 940nm; Max Power Dissipation: 100mW; Radiation Hardening: No; Lead Free: Lead Free; ComponentLink1URL: https://datasheet.ciiva.com/15116/getdatasheetpartid-631515-15116932.pdf?src-supplier=Verical; ComponentLink1Description: https://datasheet.ciiva.com/15116/getdatasheetpartid-631515-15116932.pdf?src-supplier=Verical; ComponentLink2URL: https://datasheet.ciiva.com/2820/ltr-3208e-2820763.pdf?src-supplier=Digi-Key; ComponentLink2Description: https://datasheet.ciiva.com/2820/ltr-3208e-2820763.pdf?src-supplier=Digi-Key; ComponentLink3URL: https://datasheet.ciiva.com/16448/lite-onltr-3208e-16448631.pdf?src-supplier=Future+Electronics; ComponentLink3Description: https://datasheet.ciiva.com/16448/lite-onltr-3208e-16448631.pdf?src-supplier=Future+Electronics; Supplier Part Number 1: 160-1031-ND; Contact Plating: Gold,GXT; Contact Material: Bronze; Color: Black; Housing Color: Black; Housing Material: Thermoplastic; Number of Rows: 1; Contact Gender: Male; Termination: Solder; Number of Contacts: 3; Max Voltage Rating (AC): 1.5kV; Length: 7.62mm; Contact Mating Length: 0.23inch; Depth: 2.41mm; Flammability Rating: UL94 V-0; ComponentLink4URL: https://datasheet.ciiva.com/5147/68000-274428-5147433.pdf?src-supplier=Mouser; ComponentLink4Description: https://datasheet.ciiva.com/5147/68000-274428-5147433.pdf?src-supplier=Mouser; ComponentLink5URL: https://datasheet.ciiva.com/16726/68000-16726190.pdf?src-supplier=Avnet+Europe; ComponentLink5Description: https://datasheet.ciiva.com/16726/68000-16726190.pdf?src-supplier=Avnet+Europe; ComponentLink6URL: https://datasheet.ciiva.com/18653/68000-18653982.pdf?src-supplier=Digi-Key; ComponentLink6Description: https://datasheet.ciiva.com/18653/68000-18653982.pdf?src-supplier=Digi-Key
footprint Led_5mm_BLACK
pins: 1 Collector, 2 Emiter

## LTST-C171KGKT
designator D?, comment LED GREEN
LED GREEN CLEAR 0805 SMD; Manufacturer: Vishay Lite-On; Manufacturer Part Number: LTST-C171KGKT; Lens Color: Colorless; Viewing Angle: 130°; Lens Style: Rectangular,Diffused,Colorless,Clear; Forward Voltage: 2.4V; Forward Current: 30mA; Luminous Intensity: 35mcd; Dominant Wavelength: 571nm; Test Current: 20mA; Number of Elements: 1; Power Dissipation: 75mW; Reverse Voltage: 5V; Wavelength: 574nm; Supplier 1: Digi-Key; Stock 1: 356906; Pricing 1: 1 = 0,28000, 10 = 0,15100, 100 = 0,06990, 500 = 0,06450, 1000 = 0,05053 (USD); RoHS: Yes; Mount: Surface Mount; Case/Package: 0805; Number of Pins: 2; Color: Green; Case Code (Imperial): 0805; Case Code (Metric): 2012; Min Operating Temperature: -55°C; Max Operating Temperature: 85°C; Packaging: Tape and Reel; Lens Transparency: Clear; Package Quantity: 1; Illumination Color: Green; Power Rating: 75mW; Number of LEDs: 1; Length: 2mm; Width: 1.25mm; Height: 0.8mm; Depth: 1.25mm; Radiation Hardening: No; Lead Free: Lead Free; ComponentLink1URL: https://datasheet.ciiva.com/15118/getdatasheetpartid-214542-15118099.pdf?src-supplier=Verical; ComponentLink1Description: https://datasheet.ciiva.com/15118/getdatasheetpartid-214542-15118099.pdf?src-supplier=Verical; ComponentLink2URL: https://datasheet.ciiva.com/16200/lite-on20ltst-c171kgkt-16200100.pdf?src-supplier=Future+Electronics; ComponentLink2Description: https://datasheet.ciiva.com/16200/lite-on20ltst-c171kgkt-16200100.pdf?src-supplier=Future+Electronics; ComponentLink3URL: https://datasheet.ciiva.com/11774/0900766b80dc0298-11774377.pdf?src-supplier=RSComponents; ComponentLink3Description: https://datasheet.ciiva.com/11774/0900766b80dc0298-11774377.pdf?src-supplier=RSComponents; ComponentLink4URL: https://datasheet.ciiva.com/12400/lite-on-ltst-c171kgkt-187692-12400799.pdf?src-supplier=Mouser; ComponentLink4Description: https://datasheet.ciiva.com/12400/lite-on-ltst-c171kgkt-187692-12400799.pdf?src-supplier=Mouser; ComponentLink5URL: https://datasheet.ciiva.com/2110/s-110-ltst-c171kgkt-2110072.pdf?src-supplier=Digi-Key; ComponentLink5Description: https://datasheet.ciiva.com/2110/s-110-ltst-c171kgkt-2110072.pdf?src-supplier=Digi-Key; ComponentLink6URL: https://datasheet.ciiva.com/2110/s-110-ltst-c171kgkt-2110073.pdf?src-supplier=Digi-Key; ComponentLink6Description: https://datasheet.ciiva.com/2110/s-110-ltst-c171kgkt-2110073.pdf?src-supplier=Digi-Key; ComponentLink7URL: https://datasheet.ciiva.com/2110/s-110-ltst-c171kgkt-2110074.pdf?src-supplier=Digi-Key; ComponentLink7Description: https://datasheet.ciiva.com/2110/s-110-ltst-c171kgkt-2110074.pdf?src-supplier=Digi-Key; Supplier Part Number 1: 160-1426-1-ND
footprint LED_0805_GREEN
pins: 1 Cathode, 2 Anode

## LTST-C171KRKT
designator D?, comment LED_RED
LED RED CLEAR SMD 0805; Manufacturer: Vishay Lite-On; Manufacturer Part Number: LTST-C171KRKT; Lens Color: Clear,Colorless; Viewing Angle: 130°; Lens Style: Clear,Colorless,Diffused,Rectangular; Forward Current: 30mA; Forward Voltage: 2V; Power Rating: 75mW; Luminous Intensity: 54mcd; Test Current: 20mA; Dominant Wavelength: 631nm; Number of Elements: 1; Wavelength: 639nm; Reverse Voltage: 5V; Supplier 1: Digi-Key; Stock 1: 161290; Pricing 1: 1=0.31, 10=0.225, 25=0.1656, 100=0.1183, 250=0.0804, 500=0.07096, 1000=0.05558 (USD); Mount: Surface Mount; Case/Package: 0805; Number of Pins: 2; Color: Red; Case Code (Metric): 2012; Case Code (Imperial): 0805; Min Operating Temperature: -55°C; Max Operating Temperature: 85°C; Package Quantity: 3000; Packaging: Tape and Reel; Illumination Color: Red; Lens Transparency: Clear; Power Dissipation: 75mW; Number of LEDs: 1; Length: 2mm; Height: 0.8mm; Width: 1.25mm; Depth: 1.25mm; Radiation Hardening: No; Lead Free: Lead Free; ComponentLink1URL: http://optoelectronics.liteon.com/upload/download/DS22-2000-109/LTST-C171KRKT.pdf?src-supplier=Digi-Key; ComponentLink1Description: http://optoelectronics.liteon.com/upload/download/DS22-2000-109/LTST-C171KRKT.pdf?src-supplier=Digi-Key; ComponentLink2URL: http://www.mouser.com/ds/2/239/Lite-On-LTST-C171KRKT-187201.pdf?src-supplier=Mouser; ComponentLink2Description: http://www.mouser.com/ds/2/239/Lite-On-LTST-C171KRKT-187201.pdf?src-supplier=Mouser; ComponentLink3URL: http://uk.rs-online.com/webdocs/0dc0/0900766b80dc0550.pdf?src-supplier=RSComponents; ComponentLink3Description: http://uk.rs-online.com/webdocs/0dc0/0900766b80dc0550.pdf?src-supplier=RSComponents; ComponentLink4URL: http://www1.futureelectronics.com/doc/LITE%20ON/LITE-ON%20LTST-C171KRKT.pdf?src-supplier=Future+Electronics; ComponentLink4Description: http://www1.futureelectronics.com/doc/LITE%20ON/LITE-ON%20LTST-C171KRKT.pdf?src-supplier=Future+Electronics; Supplier Part Number 1: 160-1427-6-ND
footprint LED_0805
pins: 1 Katot, 2 Anot

## LTV-814S-TA1
designator U?, comment LTV-814S
OPTOISOLATR 5KV TRANSISTOR 4-SMD; Manufacturer: Vishay Lite-On; Manufacturer Part Number: LTV-814S-TA1; Number of Channels: 1; Collector Emitter Voltage (VCEO): 35V; Forward Voltage: 1.4V; Forward Current: 50mA; Rise Time: 18000ns; Max Power Dissipation: 200mW; Collector Emitter Saturation Voltage: 200mV; Current Transfer Ratio: 300%; Input Type: AC; Supplier 1: Digi-Key; RoHS: Yes; Category: Optocouplers; Stock 1: 269835; Pricing 1: 1=0,64000, 10=0,39500, 100=0,22720 (USD); Mount: Surface Mount; Case/Package: SMD/SMT; Number of Pins: 4; Min Operating Temperature: -30°C; Max Operating Temperature: 110°C; Package Quantity: 1000; Packaging: Tape and Reel; Series: -; Max Output Voltage: 35V; Output Current per Channel: 50mA; Max Collector Current: 50mA; Output Voltage: 35V; Number of Elements: 1; Power Dissipation: 200mW; Fall Time: 18000ns; Max Input Current: 50mA; Isolation Voltage: 5kV; Number of Circuits: 1; Collector-emitter Voltage-Max: 200mV; Radiation Hardening: No; RoHS Compliant: Yes; Lead Free: Lead Free; ComponentLink1URL: https://datasheet.ciiva.com/15118/getdatasheetpartid-130408-15118735.pdf?src-supplier=Verical; ComponentLink1Description: https://datasheet.ciiva.com/15118/getdatasheetpartid-130408-15118735.pdf?src-supplier=Verical; ComponentLink2URL: https://datasheet.ciiva.com/26923/getdatasheetpartid-768366-26923462.pdf?src-supplier=Verical; ComponentLink2Description: https://datasheet.ciiva.com/26923/getdatasheetpartid-768366-26923462.pdf?src-supplier=Verical; Supplier Part Number 1: 160-1891-1-ND
footprint SMD-4
pins: 1, 2, 3, 4

## M7_Diode
designator D?
DIODE SCHOTTKY 60V 3A SMB; Manufacturer: ON Semiconductor; Manufacturer Part Number: MBRS360BT3G; Speed: Fast Recovery =< 500ns, > 200mA (Io); Supplier 1: Digi-Key; RoHS: RoHS Compliant; Category: Discrete Semiconductor Products; Stock 1: 90864; Pricing 1: 1=0.45, 10=0.384, 100=0.2868, 500=0.22532, 1000=0.17412 (USD); Packaging: Cut Tape (CT); Part Status: Active; Diode Type: Schottky; Current - Average Rectified (Io): 3A; Capacitance @ Vr, F: -; Mounting Type: Surface Mount; Package / Case: DO-214AA, SMB; Supplier Device Package: SMB; Operating Temperature - Junction: -65°C ~ 175°C; Base Part Number: MBRS360; ComponentLink1URL: http://www.onsemi.com/pub/Collateral/MBRS360T3-D.PDF; ComponentLink1Description: http://www.onsemi.com/pub/Collateral/MBRS360T3-D.PDF; Supplier Part Number 1: MBRS360BT3GOSCT-ND
footprint DO214AA_SMB
pins: 1 Katot, 2 Anot

## M20-7821046
designator J?, comment HDR_FML_1x10_100mil
10-WAY SIL VERT SOCKET L/FREE; Manufacturer: Harwin Inc.; Manufacturer Part Number: M20-7821046; Connector Type: Receptacle; Style: Board to Board or Cable; Number of Positions: 10; Number of Positions Loaded: All; Pitch - Mating: 0.100" (2.54mm); Contact Length - Post: 0.118" (3.00mm); Material Flammability Rating: UL94 V-0; Mated Stacking Heights: 11.04mm, 12.63mm; Current Rating: 3A; Voltage Rating: 1000V; Supplier 1: Digi-Key; RoHS: RoHS Compliant; Category: Connectors, Interconnects; Stock 1: 990; Pricing 1: 1=1.28, 10=1.122, 100=0.968, 500=0.792, 1000=0.704, 5000=0.616, 10000=0.5852 (USD); Packaging: Tube; Part Status: Active; Contact Type: Female Socket; Row Spacing - Mating: -; Mounting Type: Through Hole; Termination: Solder; Fastening Type: Push-Pull; Contact Finish - Mating: Tin; Contact Finish Thickness - Mating: -; Insulation Color: Black; Insulation Height: 0.335" (8.51mm); Operating Temperature: -40°C ~ 105°C; Contact Finish - Post: Tin; Ingress Protection: -; Features: -; Applications: General Purpose, Industrial, Telecommunications; Insulation Material: Polyamide (PA6T), Nylon 6T; Contact Shape: Square; Contact Material: Phosphor Bronze; Contact Finish Thickness - Post: -; ComponentLink1URL: https://cdn.harwin.com/pdfs/M20-782.pdf; ComponentLink1Description: https://cdn.harwin.com/pdfs/M20-782.pdf; Supplier Part Number 1: 952-1847-ND
footprint HDR_FML_1x10_100mil
pins: 1, 2, 3, 4, 5, 6, 7, 8, 9, 10

## M20-7840646
designator J?, comment HDR_FML_1x6_100mil
6 POS SIL PC TAIL BOTTOM SOCKET; Manufacturer: Harwin Inc.; Manufacturer Part Number: M20-7840646; Connector Type: Receptacle, Bottom or Top Entry; Style: Board to Board or Cable; Number of Positions: 6; Number of Positions Loaded: All; Pitch - Mating: 0.100" (2.54mm); Contact Length - Post: 0.118" (3.00mm); Material Flammability Rating: UL94 V-0; Current Rating: 3A; Voltage Rating: 1000V; Supplier 1: Digi-Key; RoHS: RoHS Compliant; Category: Connectors, Interconnects; Stock 1: 0; Pricing 1: 1008=0 (USD); Packaging: Tube; Part Status: Obsolete; Contact Type: Female Socket; Row Spacing - Mating: -; Mounting Type: Through Hole; Termination: Solder; Fastening Type: Push-Pull; Contact Finish - Mating: Tin; Contact Finish Thickness - Mating: -; Insulation Color: Black; Insulation Height: 0.197" (5.00mm); Operating Temperature: -40°C ~ 105°C; Contact Finish - Post: Tin; Mated Stacking Heights: -; Ingress Protection: -; Features: -; Applications: General Purpose, Industrial, Telecommunications; Insulation Material: Polyamide (PA6T), Nylon 6T; Contact Shape: Square; Contact Material: Phosphor Bronze; Contact Finish Thickness - Post: -; ComponentLink1URL: http://media.digikey.com/pdf/Data%20Sheets/Harwin%20PDFs/M20_Series.pdf; ComponentLink1Description: http://media.digikey.com/pdf/Data%20Sheets/Harwin%20PDFs/M20_Series.pdf; Supplier Part Number 1: M20-7840646-ND
footprint HDR_FML_1x6_100mil
pins: 1, 2, 3, 4, 5, 6

## M20-7840846
designator J?, comment HDR_FML_1x8_100mil
8 POS SIL PC TAIL BOTTOM SOCKET; Manufacturer: Harwin Inc.; Manufacturer Part Number: M20-7840846; Connector Type: Receptacle, Bottom or Top Entry; Style: Board to Board or Cable; Number of Positions: 8; Number of Positions Loaded: All; Pitch - Mating: 0.100" (2.54mm); Contact Length - Post: 0.118" (3.00mm); Material Flammability Rating: UL94 V-0; Current Rating: 3A; Voltage Rating: 1000V; Supplier 1: Digi-Key; RoHS: RoHS Compliant; Category: Connectors, Interconnects; Stock 1: 0; Pricing 1: 1026=0 (USD); Packaging: Tube; Part Status: Obsolete; Contact Type: Female Socket; Row Spacing - Mating: -; Mounting Type: Through Hole; Termination: Solder; Fastening Type: Push-Pull; Contact Finish - Mating: Tin; Contact Finish Thickness - Mating: -; Insulation Color: Black; Insulation Height: 0.197" (5.00mm); Operating Temperature: -40°C ~ 105°C; Contact Finish - Post: Tin; Mated Stacking Heights: -; Ingress Protection: -; Features: -; Applications: General Purpose, Industrial, Telecommunications; Insulation Material: Polyamide (PA6T), Nylon 6T; Contact Shape: Square; Contact Material: Phosphor Bronze; Contact Finish Thickness - Post: -; ComponentLink1URL: http://media.digikey.com/pdf/Data%20Sheets/Harwin%20PDFs/M20_Series.pdf; ComponentLink1Description: http://media.digikey.com/pdf/Data%20Sheets/Harwin%20PDFs/M20_Series.pdf; Supplier Part Number 1: M20-7840846-ND
footprint HDR_FML_1x8_100mil
pins: 1, 2, 3, 4, 5, 6, 7, 8

## M031FC1AE
designator U?
IC MCU 32BIT 32KB FLASH 20TSSOP; Manufacturer: Nuvoton; ADC Channels (Resolution): 7-Ch 12-Bit; EEPROM Memory Size: 0B; Interface: I2S; Clock Frequency: 32MHz; Max Supply Current: 24.21mA; Max Supply Voltage: 3.6V; Min Supply Voltage: 1.8V; Number of I/Os: 3; Number of Interrupts: 6; Number of Timers/Counters: 5; Operating Supply Voltage: 2.5V; RAM Size: 4kB; Supplier: Mouser; Supplier Part Number: 503-M031FC1AE; Manufacturer Part Number: M031FC1AE; Category: Microcontrollers; Pricing: 1=0,83, 10=0,709, 50=0,603, 100=0,569, 1000=0,517, 10000=0,442 (USD); Height - Seated (Max): 1.2mm; Length: 6.5mm; Lifecycle Status: Production; Max Operating Temperature: 105°C; Memory Format: FLASH; Min Operating Temperature: -40°C; Number of Terminals: 20; REACH SVHC: Yes; Terminal Pitch: 650µm; Width: 4.4mm; ComponentLink1URL: https://datasheet.octopart.com:443/M031FC1AE-Nuvoton-datasheet-165765253.pdf?src-supplier=IHS; ComponentLink1Description: https://datasheet.octopart.com:443/M031FC1AE-Nuvoton-datasheet-165765253.pdf?src-supplier=IHS; ComponentLink2URL: https://datasheet.octopart.com:443/M031FC1AE-Nuvoton-datasheet-153190784.pdf?src-supplier=TECHDesign; ComponentLink2Description: https://datasheet.octopart.com:443/M031FC1AE-Nuvoton-datasheet-153190784.pdf?src-supplier=TECHDesign
footprint TSSOP20
pins: 1 Vss, 2 LDO_CAP, 3 VDD, 4 PB.14 / ADC0_CH14 / SPI0_CLK / UART0_nRTS / TM1_EXT / CLKO, 5 PB.13 / ADC0_CH13 / SPI0_MISO / UART0_TXD, 6 PB.12 / ADC0_CH12 / SPI0_MOSI / UART0_RXD / TM3_EXT, 7 AVDD, 8 PB.5 / ADC0_CH5 / I2C0_SCL / PWM0_CH0 / UART2_TXD / TM0 / INT0, 9 PB.4 / ADC0_CH4 / I2C0_SDA / PWM0_CH1 / UART2_RXD / TM1 / INT1, 10 PB.3 / ADC0_CH3 / I2C1_SCL / UART1_TXD / PWM0_CH2 / PWM0_BRAKE0 / TM2 / INT2, 11 PB.2 / ADC0_CH2 / I2C1_SDA / UART1_RXD / PWM0_CH3 / TM3 / INT3, 12 PF.3 / UART0_TXD / I2C0_SCL / XT1_IN, 13 PF.2 / UART0_RXD / I2C0_SDA / XT1_OUT, 14 PA.3 / SPI0_SS / UART1_TXD / I2C1_SCL / PWM0_CH2 / CLKO, 15 PA.2 / SPI0_CLK / UART1_RXD / I2C1_SDA / PWM0_CH3, 16 PA.1 / SPI0_MISO / UART0_TXD / UART1_nCTS / PWM0_CH4, 17 PA.0 / SPI0_MOSI / UART0_RXD / UART1_nRTS / PWM0_CH5, 18 nRESET, 19 PF.0 / UART1_TXD / I2C1_SCL / UART0_TXD / ICE_DAT, 20 PF.1 / UART1_RXD / I2C1_SDA / UART0_RXD / ICE_CLK

## M50-3530842
designator J?
CONN HEADER 8POS  1.27MM VERT; Manufacturer: Harwin; Connector Type: Header,Male Pin; Number of Positions: 8; Current Rating: 1A; Supplier 1: Digi-Key; Manufacturer Part Number: M50-3530842; Stock 1: 4491; Pricing 1: 1 = 0,31000, 10 = 0,29100, 100 = 0,20340, 500 = 0,17430, 1000 = 0,14525, 5000 = 0,12450, 10000 = 0,11620 (USD); RoHS: No; Mount: Through Hole; Contact Plating: Gold; Contact Material: Brass; Contact Shape: Square; Insulation Material: Nylon; Insulation Color: Black; Min Operating Temperature: -40°C; Max Operating Temperature: 105°C; Fastening Type: Push,Pull; Packaging: Bulk; Number of Rows: 1; Termination: Solder; Flammability Rating: UL94 V-0; ComponentLink1URL: https://cdn.harwin.com/pdfs/Harwin_PC_Connectors_Archer.pdf?src-supplier=Digi-Key; ComponentLink1Description: https://cdn.harwin.com/pdfs/Harwin_PC_Connectors_Archer.pdf?src-supplier=Digi-Key
footprint HDR_MALE_1x8_50MIL
pins: 1, 2, 3, 4, 5, 6, 7, 8